# Altium footprint library QFN.PcbLib: 2 footprints
Each footprint in its own frame and in the unit in brackets; x right, y up, seen from the top. Pads: shape width x height; smd on the part's side, far side on the other; paste and mask are expansions set on the pad; w line width, h text height; cw(c..) or ccw(c..) is an arc to the next point about the centre after c.
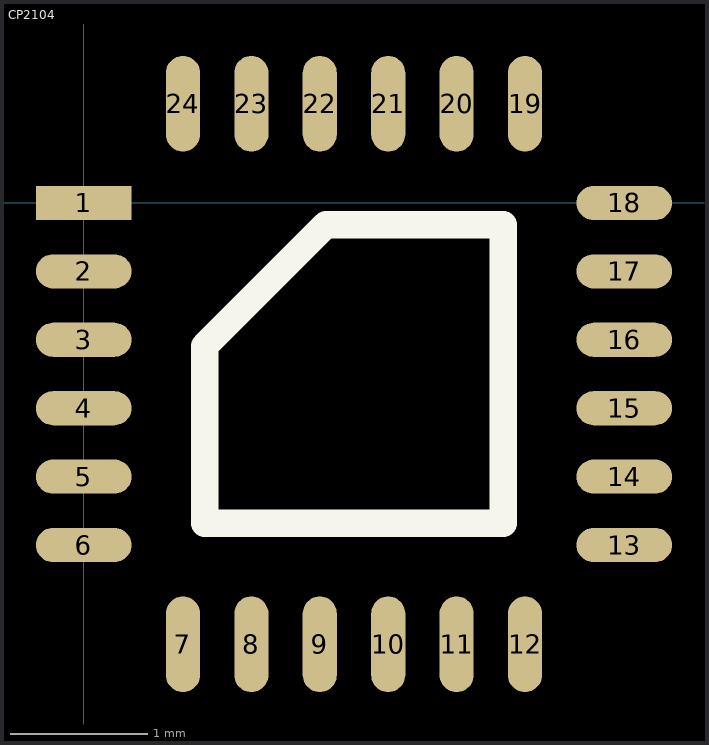
[diagram p0: the footprints below, top view; thin cyan lines are the x and y axes]

## CP2104 [mm]
pads (24):
  rect 0.7x0.25 smd: 1(0,0)
  oval 0.7x0.25 smd: 2(0,-0.5) 3(0,-1) 4(0,-1.5) 5(0,-2) 6(0,-2.5) 13(3.95,-2.5) 14(3.95,-2) 15(3.95,-1.5) 16(3.95,-1) 17(3.95,-0.5) 18(3.95,0)
  oval 0.25x0.7 smd: 7(0.725,-3.225) 8(1.225,-3.225) 9(1.725,-3.225) 10(2.225,-3.225) 11(2.725,-3.225) 12(3.225,-3.225) 19(3.225,0.725) 20(2.725,0.725) 21(2.225,0.725) 22(1.725,0.725) 23(1.225,0.725) 24(0.725,0.725)
Top Overlay:
  lines w0.2: 0.885,-2.34 0.885,-1.045 1.77,-0.16 3.065,-0.16 3.065,-2.34 0.885,-2.34
3D body "CP2104-F03-GM.stp": height 0.8, standoff 0, extent -0.05,-3.25 4.05,0.85

## PCBComponent_1 [mm]